# EAGLE library part MIO283QT (library adafruit)
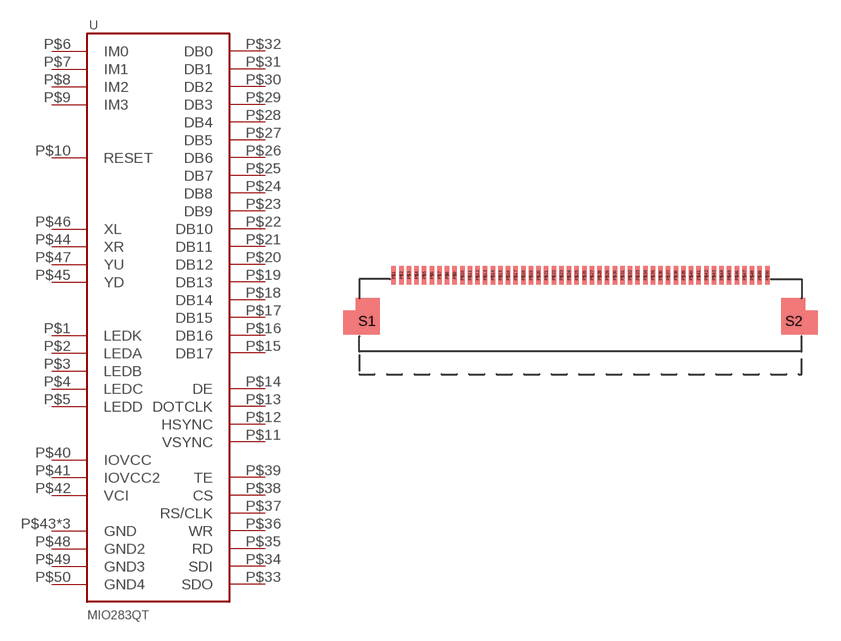
[diagram p116: symbol with the pads of FFC50; footprint FFC50]

Designator prefix -

## MIO283QT  [FFC50]
P$1  LEDK
P$2  LEDA
P$3  LEDB
P$4  LEDC
P$5  LEDD
P$6  IM0
P$7  IM1
P$8  IM2
P$9  IM3
P$10  RESET
P$11  VSYNC
P$12  HSYNC
P$13  DOTCLK
P$14  DE
P$15  DB17
P$16  DB16
P$17  DB15
P$18  DB14
P$19  DB13
P$20  DB12
P$21  DB11
P$22  DB10
P$23  DB9
P$24  DB8
P$25  DB7
P$26  DB6
P$27  DB5
P$28  DB4
P$29  DB3
P$30  DB2
P$31  DB1
P$32  DB0
P$33  SDO
P$34  SDI
P$35  RD
P$36  WR
P$37  RS/CLK
P$38  CS
P$39  TE
P$40  IOVCC
P$41  IOVCC2
P$42  VCI
P$43  GND
P$44  XR
P$45  YD
P$46  XL
P$47  YU
P$48  GND2
P$49  GND3
P$50  GND4
S1  GND
S2  GND

## Footprint FFC50 (pad centres in mm)
smd 0.3 x 1.2: P$1 -12.25,0; P$2 -11.75,0; P$3 -11.25,0; P$4 -10.75,0; P$5 -10.25,0; P$6 -9.75,0; P$7 -9.25,0; P$8 -8.75,0; P$9 -8.25,0; P$10 -7.75,0; P$11 -7.25,0; P$12 -6.75,0; P$13 -6.25,0; P$14 -5.75,0; P$15 -5.25,0; P$16 -4.75,0; P$17 -4.25,0; P$18 -3.75,0; P$19 -3.25,0; P$20 -2.75,0; P$21 -2.25,0; P$22 -1.75,0; P$23 -1.25,0; P$24 -0.75,0; P$25 -0.25,0; P$26 0.25,0; P$27 0.75,0; P$28 1.25,0; P$29 1.75,0; P$30 2.25,0; P$31 2.75,0; P$32 3.25,0; P$33 3.75,0; P$34 4.25,0; P$35 4.75,0; P$36 5.25,0; P$37 5.75,0; P$38 6.25,0; P$39 6.75,0; P$40 7.25,0; P$41 7.75,0; P$42 8.25,0; P$43 8.75,0; P$44 9.25,0; P$45 9.75,0; P$46 10.25,0; P$47 10.75,0; P$48 11.25,0; P$49 11.75,0; P$50 12.25,0
smd 1 x 1: S1 -14,-3; S2 14,-3